# EAGLE library part AP9211SA-AG-HAC-7 (library BattBoard)
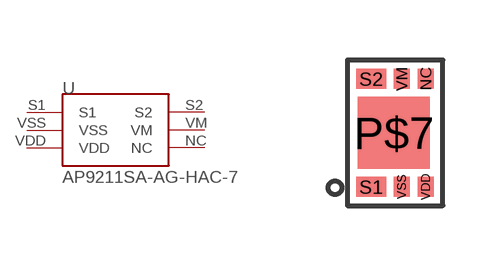
[diagram p3: symbol with the pads of U-DFN2030-6; footprint U-DFN2030-6]

Designator prefix U

## AP9211SA-AG-HAC-7  [U-DFN2030-6]
NC  NC
S1  S1
S2  S2
VDD  VDD
VM  VM
VSS  VSS

## Footprint U-DFN2030-6 (pad centres in mm)
smd 0.4 x 0.5: NC 0.8,1.35; VDD 0.8,-1.35; VM 0.2,1.35; VSS 0.2,-1.35
smd 1.8 x 1.8: P$7 0,0
smd 0.75 x 0.5: S1 -0.57,-1.35; S2 -0.57,1.35